# Altium schematic symbol library SCH - CONNECTORS - PHOENIX 1729160.Schlib: 1 symbol
Pins are listed as number, name and electrical type; pins without a type are passive.

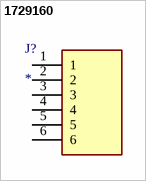
[diagram p0: symbol 1729160]

## 1729160
designator J?
Connector
pins: 1, 2, 3, 4, 5, 6